# Altium integrated library Linear Technology Power Management Switching Regulator LTC1174-LTC3901.IntLib: 2647 symbols (part 286 of 364)
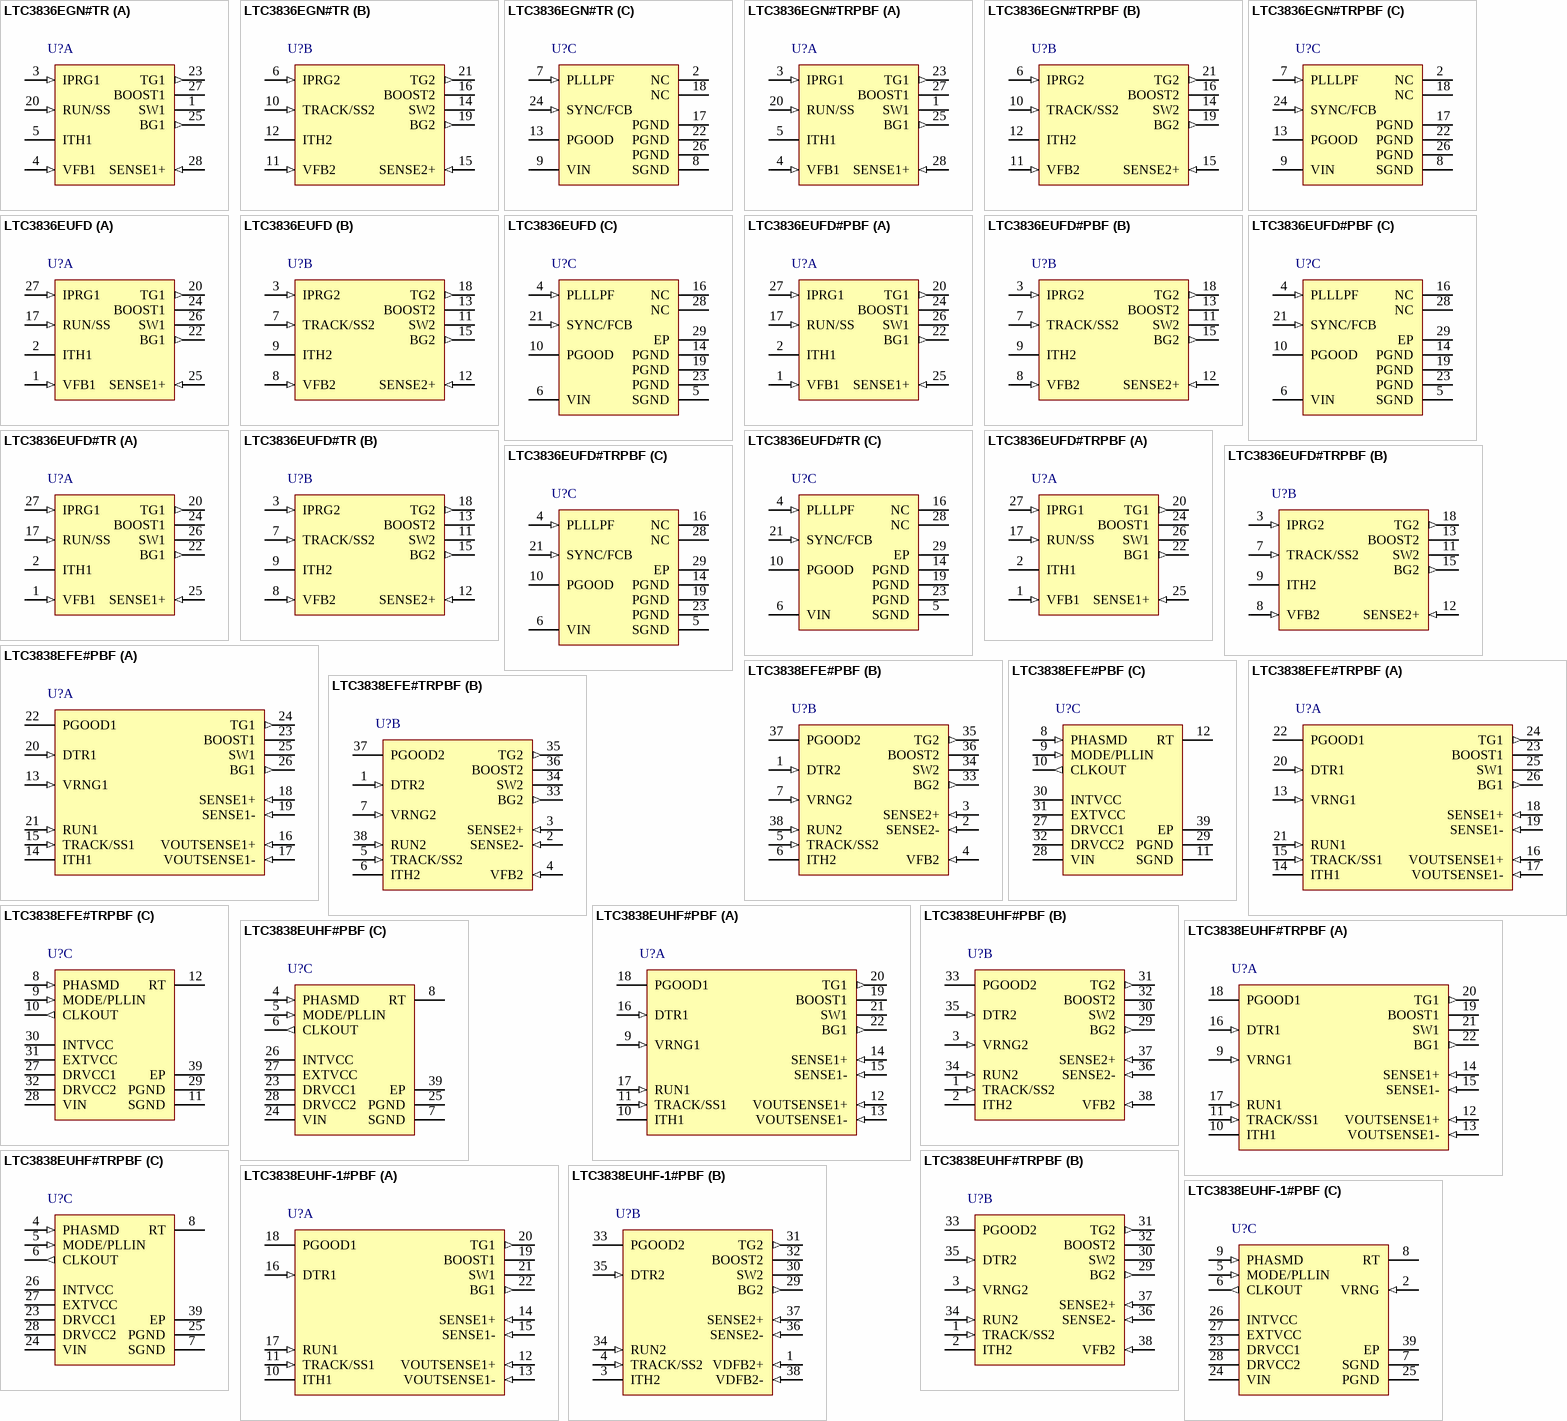
[diagram p363: symbols LTC3836EGN#TR to LTC3838EUHF-1#PBF]

## LTC3838EUHF#PBF
designator U?
Dual, Fast, Accurate Step-Down DC/DC Controller with Differential Output Sensing, 38-pin QFN (UHF-38), -40 to 125 degC, Pb-Free; Manufacturer: Linear Technology; PartNumber: LTC3838EUHF#PBF; Frequency Sync Range: 200kHz - 2MHz; Number of Outputs: 2; DatasheetVersion: Rev. A; PackageVersion: Rev. C, 06/2010; PackageReference: UHF-38; PackageDescription: 38-Pin Plastic QFN, Body 7 x 5 mm, Pitch 0.5 mm; Supplier 1: Digi-Key; Supplier Part Number 1: LTC3838EUHF#PBF-ND; RoHS: TRUE; Mounting Technology: Surface Mount; Code_JEDEC: MO-220; ComponentLink1Description: Manufacturer URL; ComponentLink1URL: http://www.linear.com/; ComponentLink2Description: Datasheet; ComponentLink2URL: http://cds.linear.com/docs/en/datasheet/3838fa.pdf; ComponentLink3Description: Package Specification; ComponentLink3URL: http://cds.linear.com/docs/en/packaging/QFN_38_05-08-1701.pdf
footprint LT-UHF-38_N (QFN, 38-Leads, Body 7.1x5.1mm, Pitch 0.5mm, Thermal Pad 3.15x5.15mm, IPC Medium Density)
footprint LT-UHF-38_L (QFN, 38-Leads, Body 7.1x5.1mm, Pitch 0.5mm, Thermal Pad 3.15x5.15mm, IPC High Density)
footprint LT-UHF-38_M (QFN, 38-Leads, Body 7.1x5.1mm, Pitch 0.5mm, Thermal Pad 3.15x5.15mm, IPC Low Density)
part A pins: 9 VRNG1 (in) "Current Sense Voltage Range Inputs. When programmed between 0.6V and 2V, the voltage applied to VRNG1,2 is twenty times (20x) the maximum sense voltage between SENSE1,2+ and SENSE1,2-, i.e., for either channel, (VSENSE + - (See Datasheet)", 10 ITH1 "Current Control Threshold. This pin is the output of the error amplifier and the switching regulator’s compensation point. The current comparator threshold increases with this control voltage. The voltage ranges from 0V t(See Datasheet)", 11 TRACK/SS1 (in), 12 VOUTSENSE1+ (in) "Differential Output Sense Amplifier (+) Input of Channel 1. Connect this pin to a feedback resistor divider between the positive and negative output capacitor terminals of VOUT1. In nominal operation the LTC3838 will attempt (See Datasheet)", 13 VOUTSENSE1- (in) "Differential Output Sense Amplifier (-) Input of Channel 1. Connect this pin to the negative terminal of the output load capacitor of VOUT1.", 14 SENSE1+ (in) "Differential Current Sense Comparator (+) Inputs. The ITH pin voltage and controlled offsets between the SENSE+ and SENSE- pins set the current trip threshold. The comparator can be used for RSENSE sensing or inductor DCR (See Datasheet)", 15 SENSE1- (in) "Differential Current Sense Comparator (-) Input. The comparator can be used for RSENSE sensing or inductor DCR sensing. For RSENSE sensing, Kelvin (4-wire) connect the SENSE- pin to the (-) terminal of RSENSE. For DCR (See Datasheet)", 16 DTR1 (in) "Detect Load- Release Transient for Overshoot Reduction. When load current suddenly drops, if voltage on this DTR pin drops below half of INTVCC, the bottom gate (BG) could turn off, allowing the inductor current to drop to (See Datasheet)", 17 RUN1 (in) "Run Control Inputs. An internal proportional-to-absolute-temperature (PTAT) pull-up current source (~1.2uA at 25degreesC) is constantly connected to this pin. Taking both RUN1 and RUN2 pins below a threshold voltage (~0.8V (See Datasheet)", 18 PGOOD1 (oc) "Power Good Indicator Outputs. This open-drain logic output is pulled to ground when the output voltage goes out of a +/-7.5% window around the regulation point, after a 50us powerbad- masking delay. Returning to the (See Datasheet)", 19 BOOST1 "Boosted Floating Supplies for Top MOSFET Drivers. The (+) terminal of the bootstrap capacitor, CB, connects to this pin. The BOOST pins swing by a VIN between a diode drop below DRVCC, or (DRVCC - VD) and (VIN + DRVCC - VD).", 20 TG1 (out) "Top Gate Driver Outputs. The TG pins drive the gates of the top N-channel power MOSFET with a voltage swing of VDRVCC between SW and BOOST.", 21 SW1 "Switch Node Connection to Inductors. Voltage swings are from a diode voltage below ground to VIN. The (-) terminal of the bootstrap capacitor, CB, connects to this node.", 22 BG1 (out) "Bottom Gate Driver Outputs. The BG pins drive the gates of the bottom N-channel power MOSFET between PGND and DRVCC."
part B pins: 1 TRACK/SS2 (in), 2 ITH2 "Current Control Threshold. This pin is the output of the error amplifier and the switching regulator’s compensation point. The current comparator threshold increases with this control voltage. The voltage ranges from 0V t(See Datasheet)", 3 VRNG2 (in) "Current Sense Voltage Range Inputs. When programmed between 0.6V and 2V, the voltage applied to VRNG1,2 is twenty times (20x) the maximum sense voltage between SENSE1,2+ and SENSE1,2-, i.e., for either channel, (VSENSE + - (See Datasheet)", 29 BG2 (out) "Bottom Gate Driver Outputs. The BG pins drive the gates of the bottom N-channel power MOSFET between PGND and DRVCC.", 30 SW2 "Switch Node Connection to Inductors. Voltage swings are from a diode voltage below ground to VIN. The (-) terminal of the bootstrap capacitor, CB, connects to this node.", 31 TG2 (out) "Top Gate Driver Outputs. The TG pins drive the gates of the top N-channel power MOSFET with a voltage swing of VDRVCC between SW and BOOST.", 32 BOOST2 "Boosted Floating Supplies for Top MOSFET Drivers. The (+) terminal of the bootstrap capacitor, CB, connects to this pin. The BOOST pins swing by a VIN between a diode drop below DRVCC, or (DRVCC - VD) and (VIN + DRVCC - VD).", 33 PGOOD2 (oc) "Power Good Indicator Outputs. This open-drain logic output is pulled to ground when the output voltage goes out of a +/-7.5% window around the regulation point, after a 50us powerbad- masking delay. Returning to the (See Datasheet)", 34 RUN2 (in) "Run Control Inputs. An internal proportional-to-absolute-temperature (PTAT) pull-up current source (~1.2uA at 25degreesC) is constantly connected to this pin. Taking both RUN1 and RUN2 pins below a threshold voltage (~0.8V (See Datasheet)", 35 DTR2 (in) "Detect Load- Release Transient for Overshoot Reduction. When load current suddenly drops, if voltage on this DTR pin drops below half of INTVCC, the bottom gate (BG) could turn off, allowing the inductor current to drop to (See Datasheet)", 36 SENSE2- (in) "Differential Current Sense Comparator (-) Input. The comparator can be used for RSENSE sensing or inductor DCR sensing. For RSENSE sensing, Kelvin (4-wire) connect the SENSE- pin to the (-) terminal of RSENSE. For DCR (See Datasheet)", 37 SENSE2+ (in) "Differential Current Sense Comparator (+) Inputs. The ITH pin voltage and controlled offsets between the SENSE+ and SENSE- pins set the current trip threshold. The comparator can be used for RSENSE sensing or inductor DCR (See Datasheet)", 38 VFB2 (in) "Error Amplifier Feedback Input for Channel 2. This pin connects the error amplifier to an external feedback resistor divider from VOUT2. In nominal operation the LTC3838 will attempt to regulate the VOUT2 to 0.6V divided by (See Datasheet)"
part C pins: 4 PHASMD (in) "Phase Selector Input. This pin determines the relative phases of channels and the CLKOUT signal. With zero phase being defined as the rising edge of TG1: Pulling this pin to SGND locks TG2 to 180degrees, and CLKOUT to (See Datasheet)", 5 MODE/PLLIN (in), 6 CLKOUT (out) "Clock Output of Internal Clock Generator. Its output level swings between INTVCC and SGND. If clock input is present at the MODE/PLLIN pin, it will be synchronized to the input clock, with phase set by the PHASMD pin. If no (See Datasheet)", 7 SGND (power) "Signal Ground. All small-signal analog and compensation components should be connected to this ground. Connect SGND to the exposed pad and PGND pin using a single PCB trace.", 8 RT "Clock Generator Frequency Programming Pin. Connect an external resistor from RT to SGND to program the switching frequency between 200kHz and 2MHz. An external clock applied to MODE/PLLIN should be within +/-30% of this (See Datasheet)", 23 DRVCC1 (power) "Supplies of Bottom Gate Drivers. DRVCC1 is also the output of an internal 5.3V regulator. DRVCC2 is also the output of the EXTVCC switch. Normally the two DRVCC pins are shorted together on the PCB, and decoupled to PGND (See Datasheet)", 24 VIN (power) "Input Voltage Supply. The supply voltage can range from 4.5V to 38V. For increased noise immunity decouple this pin to SGND with an RC filter. Voltage at this pin is also used to adjust top gate on-time, therefore it is (See Datasheet)", 25 PGND (power) "Power Ground. Connect this pin as close as practical to the source of the bottom N-channel power MOSFET, the (-) terminal of CDRVCC and the (-) terminal of CIN. Connect the exposed pad and PGND pin to SGND pin using a single (See Datasheet)", 26 INTVCC (power) "Supply Input for Internal Circuitry (Not Including Gate Drivers). Normally powered from the DRVCC pins through a decoupling RC filter to SGND (typically 2Ohm and 1uF).", 27 EXTVCC (power) "External Power Input. When EXTVCC exceeds the switchover voltage (typically 4.6V), an internal switch connects this pin to DRVCC2 and shuts down the internal regulator so that INTVCC and gate drivers draw power from EXTVCC. (See Datasheet)", 28 DRVCC2 (power) "Supplies of Bottom Gate Drivers. DRVCC1 is also the output of an internal 5.3V regulator. DRVCC2 is also the output of the EXTVCC switch. Normally the two DRVCC pins are shorted together on the PCB, and decoupled to PGND (See Datasheet)", 39 EP (power) "Power Ground. Connect this pin as close as practical to the source of the bottom N-channel power MOSFET, the (-) terminal of CDRVCC and the (-) terminal of CIN. Connect the exposed pad and PGND pin to SGND pin using a single (See Datasheet)"